# Altium schematic symbol library antenna.SchLib: 7 symbols
Pins are listed as number, name and electrical type; pins without a type are passive.

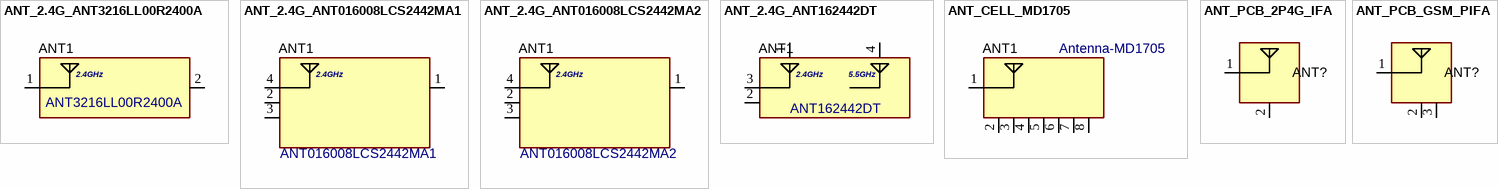
[diagram p0: symbols ANT_2.4G_ANT3216LL00R2400A to ANT_PCB_GSM_PIFA]

## ANT_2.4G_ANT3216LL00R2400A
designator ANT1, comment ANT3216LL00R2400A  (net tie, no BOM)
Antenna, Multilayer Chip, 2.4GHz W-LAN & Bluetooth; MANF: Yageo Pulse; MANF_P#: ANT3216LL00R2400A; PACKAGE: SMD 3.2x1.6mm; VALUE: ANT3216LL00R2400A
footprint ANT3216_2 (Antenna 3.2x1.6mm, 2 pad)
pins: 1 Feed point, 2 Radiator electrode
text: 2.4GHz

## ANT_2.4G_ANT016008LCS2442MA1
designator ANT1, comment ANT016008LCS2442MA1  (net tie, no BOM)
Antenna, Multilayer Chip, 2.4GHz W-LAN & Bluetooth; MANF: TDK; MANF_P#: ANT016008LCS2442MA1; PACKAGE: SMD 1.6x0.8mm; VALUE: ANT016008LCS2442MA1
footprint ANT1608_6 (TDK 1.6x0.8mm, 6 pad)
pins: 1 Radiator electrode, 2 DUMMY PAD, 3 DUMMY PAD, 4 Feed point
text: 2.4GHz

## ANT_2.4G_ANT016008LCS2442MA2
designator ANT1, comment ANT016008LCS2442MA2  (net tie, no BOM)
Antenna, Multilayer Chip, 2.4GHz W-LAN & Bluetooth; MANF: TDK; MANF_P#: ANT016008LCS2442MA2; PACKAGE: SMD 1.6x0.8mm; VALUE: ANT016008LCS2442MA2
footprint ANT1608_6 (TDK 1.6x0.8mm, 6 pad)
pins: 1 Radiator electrode, 2 DUMMY PAD, 3 DUMMY PAD, 4 Feed point
text: 2.4GHz

## ANT_2.4G_ANT162442DT
designator ANT1, comment ANT162442DT  (net tie, no BOM)
Antenna, Multilayer Chip, 2.4GHz W-LAN & Bluetooth / 5GHz W-LAN; MANF: TDK; MANF_P#: ANT162442DT-2001A2; PACKAGE: SMD 1.6x0.8mm; VALUE: ANT162442DT
footprint ANT1608_6 (TDK 1.6x0.8mm, 6 pad)
pins: 1 2.4G Radiator electrode, 2 Feed point#2, 3 Feed point#3, 4 5.5G Radiator electrode
text: 2.4GHz; 5.5GHz

## ANT_CELL_MD1705
designator ANT1, comment Antenna-MD1705  (net tie, no BOM)
Antenna, Multilayer Chip, 800~2100MHz, 17x5mm; MANF_P#: MD1705; MANF: MANF; PACKAGE: SMD 17x5mm; VALUE: Antenna-MD1705
footprint ANT_MD1705 (Cellular Antenna)
pins: 1 FEEDER, 2 RETURN1, 3 RETURN2, 4 RETURN3, 5 RETURN4, 6 RETURN5, 7 RETURN6, 8 RETURN7

## ANT_PCB_2P4G_IFA
designator ANT?, comment Antenna  (net tie, no BOM)
Antenna,Microstrip, 2.4GHz; MANF: MANF; MANF_P#: MANF_P#; VALUE: Antenna
footprint ANT_PCB_2P4G_IFA (ANTENNA, Microstrip, IFA, 2.4GHz)
pins: 1 FEEDER, 2 RETURN

## ANT_PCB_GSM_PIFA
designator ANT?, comment Antenna  (net tie, no BOM)
Antenna,Microstrip, GSM 850MHz/1800MHz; MANF: MANF; MANF_P#: MANF_P#; VALUE: Antenna
footprint ANT_PCB_GSM_PIFA (Footprint not found)
pins: 1 FEEDER, 2 RETURN1, 3 RETURN2